# Altium schematic symbol library Relay_1000VDC_30A.SchLib: 1 symbol
Pins are listed as number, name and electrical type; pins without a type are passive.

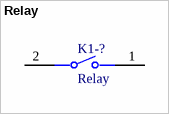
[diagram p0: symbol Relay]

## Relay
designator K1-?
footprint Relay_1000VDC_30A
pins: 1, 2